# EAGLE library part JQ6500 (library Audio)
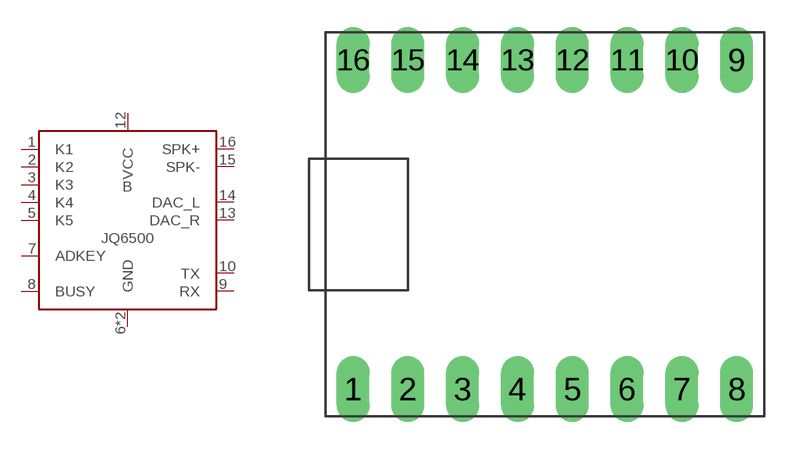
[diagram p1: symbol with the pads of JQ6500; footprint JQ6500]

Designator prefix B

## JQ6500  [JQ6500]
1  K1
2  K2
3  K3
4  K4
5  K5
6  GND
7  ADKEY
8  BUSY
9  RX
10  TX
11  GND
12  VCC
13  DAC_R
14  DAC_L
15  SPK-
16  SPK+

## Footprint JQ6500 (pad centres in mm)
drill 1.016 long: 1 -8.89,-7.62; 2 -6.35,-7.62; 3 -3.81,-7.62; 4 -1.27,-7.62; 5 1.27,-7.62; 6 3.81,-7.62; 7 6.35,-7.62; 8 8.89,-7.62; 9 8.89,7.62; 10 6.35,7.62; 11 3.81,7.62; 12 1.27,7.62; 13 -1.27,7.62; 14 -3.81,7.62; 15 -6.35,7.62; 16 -8.89,7.62